# Altium footprint library SOT95P295X110-5N.PcbLib: 1 footprints
Each footprint in its own frame and in the unit in brackets; x right, y up, seen from the top. Pads: shape width x height; smd on the part's side, far side on the other; paste and mask are expansions set on the pad; w line width, h text height; cw(c..) or ccw(c..) is an arc to the next point about the centre after c.
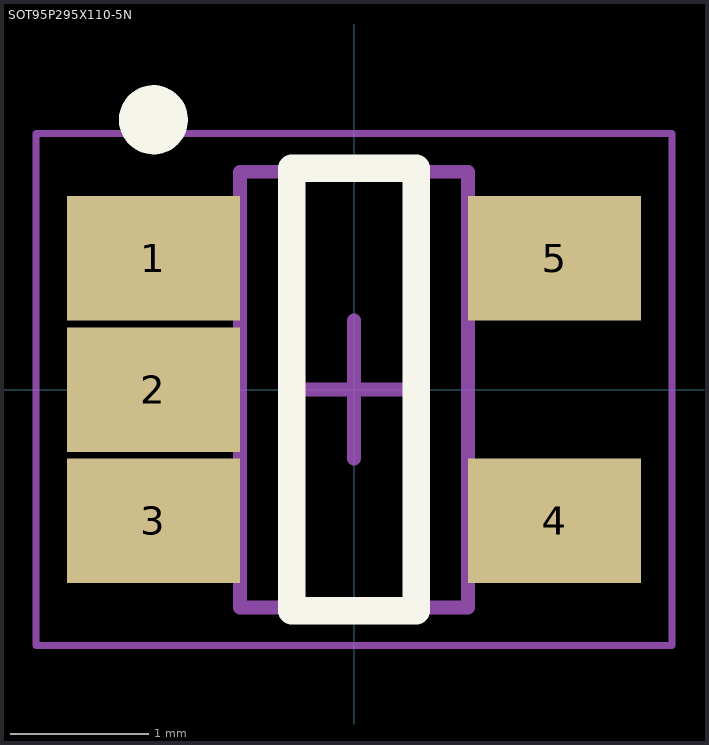
[diagram p0: the footprint, top view; thin cyan lines are the x and y axes]

## SOT95P295X110-5N [mm] "SOT23, 5-Leads, Body 3.00x2.95mm, Pitch 0.95mm, IPC Medium Density"
height 1.1
pads (5):
  rect 1.25x0.9 smd: 1(-1.45,0.95) 2(-1.45,0) 3(-1.45,-0.95) 4(1.45,-0.95) 5(1.45,0.95)
Top Overlay:
  circle w0.25: c-1.45,1.95 r0.125
  lines w0.2: -0.45,-1.6 0.45,-1.6 0.45,1.6 -0.45,1.6 -0.45,-1.6
Mechanical 13:
  lines w0.1: -0.825,-1.575 -0.825,1.575 0.825,1.575 0.825,-1.575 -0.825,-1.575
Mechanical 15:
  lines w0.05: -2.3,-1.85 -2.3,1.85 2.3,1.85 2.3,-1.85 -2.3,-1.85
  lines w0.1: -0.5,0 0.5,0 ; 0,-0.5 0,0.5
3D body: height 1.1, standoff 0.01, extent -0.825,-1.575 0.825,1.575